# Altium schematic symbol library BUZZER PKM13EPYH4000-A0.Schlib: 1 symbol
Pins are listed as number, name and electrical type; pins without a type are passive.

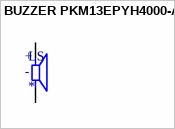
[diagram p0: symbol BUZZER PKM13EPYH4000-A0]

## BUZZER PKM13EPYH4000-A0
designator LS
Buzzers Transducer, Externally Driven Piezo 1.5V 4kHz 70dB @ 1.5V, 10cm Through Hole PC Pins; MF: Murata; MP: PKM13EPYH4000-A0; Value: *; SnapEDA_Link: https://www.snapeda.com/parts/PKM13EPYH4000-A0/Murata/view-part/4970420/?ref=snap; Package: Radial-2 Murata; Supplier 1: Digi-Key; Supplier Part Number 1: 490-4698-1-ND
footprint BUZZER PKM13EPYH4000-A0
pins: N, P
text: +; -